# Altium schematic symbol library CL10B473KB8NNNC.SchLib: 1 symbol
Pins are listed as number, name and electrical type; pins without a type are passive.

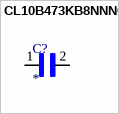
[diagram p0: symbol CL10B473KB8NNNC]

## CL10B473KB8NNNC
designator C?
Cap Ceramic 0.047uF 50VDC X7R 10% SMD 0603 Paper T/R; MP: CL10B473KB8NNNC; Package: None; Price: None; Value: *; Availability: Unavailable
pins: 1, 2